# EAGLE library part WLANMODULE (library SparkFun)
DPAC WiFi Module Footprint for DPAC wireless module. Not fully tested so double check it. Spark Fun Electronics SKU : (Module) WRL-00665, (Connector) WRL-00673
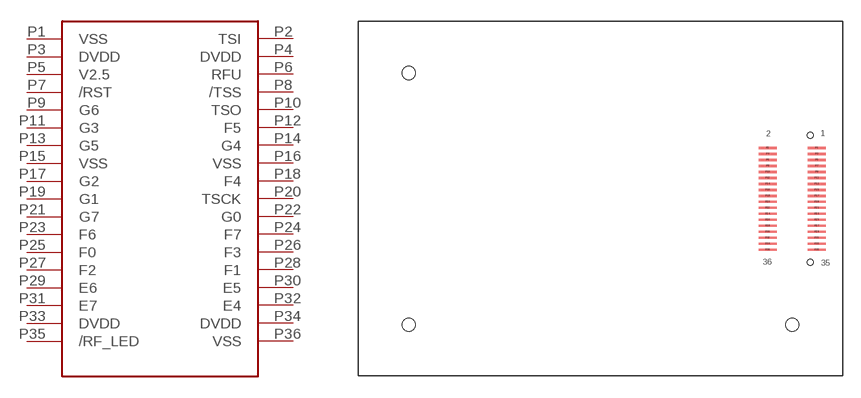
[diagram p32: symbol with the pads of WLANMODULE; footprint WLANMODULE]

Designator prefix -

## WLANMODULE  [WLANMODULE]
P1  VSS
P2  TSI
P3  DVDD
P4  DVDD
P5  V2.5
P6  RFU
P7  /RST
P8  /TSS
P9  G6
P10  TSO
P11  G3
P12  F5
P13  G5
P14  G4
P15  VSS
P16  VSS
P17  G2
P18  F4
P19  G1
P20  TSCK
P21  G7
P22  G0
P23  F6
P24  F7
P25  F0
P26  F3
P27  F2
P28  F1
P29  E6
P30  E5
P31  E7
P32  E4
P33  DVDD
P34  DVDD
P35  /RF_LED
P36  VSS

## Footprint WLANMODULE (pad centres in mm)
smd 1.5 x 0.2: P1 4.1,0; P2 0,0; P3 4.1,-0.5; P4 0,-0.5; P5 4.1,-1; P6 0,-1; P7 4.1,-1.5; P8 0,-1.5; P9 4.1,-2; P10 0,-2; P11 4.1,-2.5; P12 0,-2.5; P13 4.1,-3; P14 0,-3; P15 4.1,-3.5; P16 0,-3.5; P17 4.1,-4; P18 0,-4; P19 4.1,-4.5; P20 0,-4.5; P21 4.1,-5; P22 0,-5; P23 4.1,-5.5; P24 0,-5.5; P25 4.1,-6; P26 0,-6; P27 4.1,-6.5; P28 0,-6.5; P29 4.1,-7; P30 0,-7; P31 4.1,-7.5; P32 0,-7.5; P33 4.1,-8; P34 0,-8; P35 4.1,-8.5; P36 0,-8.5
hole 0.5 at 3.55,1.05
hole 0.5 at 3.54,-9.55
hole 1.1 at 2.05,-14.75
hole 1.1 at -29.95,-14.75
hole 1.1 at -29.95,6.25